# Altium schematic symbol library ECS-160-18-4X-EM.SchLib: 1 symbol
Pins are listed as number, name and electrical type; pins without a type are passive.

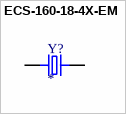
[diagram p0: symbol ECS-160-18-4X-EM]

## ECS-160-18-4X-EM
designator Y?
16 MHz Â±30ppm Crystal 18pF 40 Ohms HC-49/US; MF: ECS Inc.; MP: ECS-160-18-4X-EM; SnapEDA_Link: https://www.snapeda.com/parts/ECS-160-18-4X-EM/ECS/view-part/?ref=snap; Package: HC-49USX-4X-2 ECS; Value: *; Check_prices: https://www.snapeda.com/parts/ECS-160-18-4X-EM/ECS/view-part/?ref=eda
footprint XTAL_ECS-160-18-4X-EM
pins: 1, 2